# Altium footprint library D0805.PcbLib: 1 footprints
Each footprint in its own frame and in the unit in brackets; x right, y up, seen from the top. Pads: shape width x height; smd on the part's side, far side on the other; paste and mask are expansions set on the pad; w line width, h text height; cw(c..) or ccw(c..) is an arc to the next point about the centre after c.
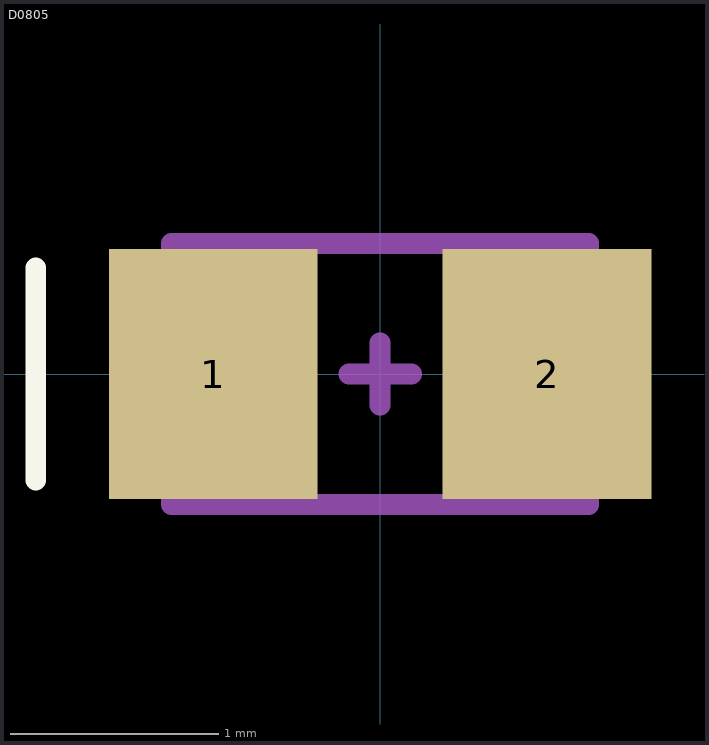
[diagram p0: the footprint, top view; thin cyan lines are the x and y axes]

## D0805 [mm]
pads (2):
  rect 1x1.2 smd mask+0.051: 1(-0.8,0) 2(0.8,0)
Top Overlay:
  lines w0.1: -1.651,-0.508 -1.651,0.508
Mechanical 13:
  lines w0.1: -1,-0.625 1,-0.625 1,0.625 -1,0.625 -1,-0.625
Mechanical 15:
  lines w0.1: -0.15,0 0,0 ; 0,-0.15 0,0 ; 0,0.15 0,0 ; 0.15,0 0,0
3D body "D0805.STEP": height 0.86, standoff 0.01, extent -1,-0.625 1,0.625